# EAGLE library part 74LVC2G240 (library rgb_cube)
Dual inverter tri-state, 3.3V/5V compatible http://www.nxp.com/documents/data_sheet/74LVC2G240.pdf http://focus.ti.com/lit/ds/symlink/sn74lvc2g240.pdf
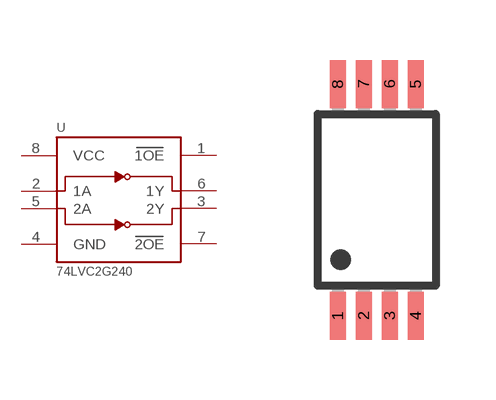
[diagram p29: symbol with the pads of R-PDSO-G08; footprint R-PDSO-G08]

Designator prefix -

## 74LVC2G240  [R-PDSO-G08]
1  1OE  in
2  1A
3  2Y
4  GND  sup
5  2A
6  1Y
7  2OE  in
8  VCC  sup

## Footprint R-PDSO-G08 (pad centres in mm)
PLASTIC SMALL-OUTLINE PACKAGE, SO 8 JEDEC MO-153 Source: www.ti.com/.. slvs087l.pdf
smd 0.4 x 1.2: 1 -0.975,-2.9; 2 -0.325,-2.9; 3 0.325,-2.9; 4 0.975,-2.9; 5 0.975,2.9; 6 0.325,2.9; 7 -0.325,2.9; 8 -0.975,2.9